# EAGLE library part 113990580 (library inker_super_board_parts)
WiFi Development Tools (802.11) ESP32-CAM Development Board(with camera) https://www.seeedstudio.com/ESP32-CAM-Development-Board-with-camer-p-3153.html Source: Datasheet <https://github.com/SeeedDocument/Outsourcing/raw/master/113990580 ESP32-CAM/113990580 ESP32-CAM Product Specification.pdf>
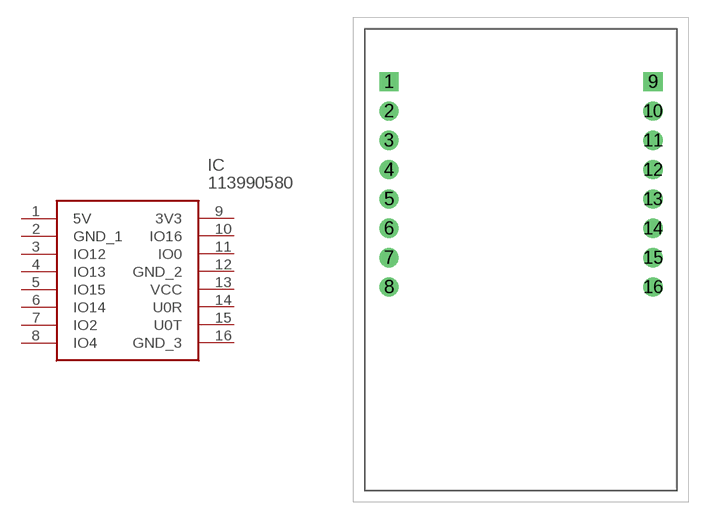
[diagram p4: symbol with the pads of 113990580; footprint 113990580]

Designator prefix IC

## 113990580 (DESCRIPTION: WiFi Development Tools (802.11) ESP32-CAM Development Board(with camera); MANUFACTURER_NAME: Seeed Studio; MANUFACTURER_PART_NUMBER: 113990580)  [113990580]
1  5V
2  GND_1
3  IO12
4  IO13
5  IO15
6  IO14
7  IO2
8  IO4
9  3V3
10  IO16
11  IO0
12  GND_2
13  VCC
14  U0R
15  U0T
16  GND_3

## Footprint 113990580 (pad centres in mm)
113990580-3
drill 1.11 pad 1.665 square: 1 0,0; 9 22.86,0
drill 1.11 pad 1.665: 2 0,-2.54; 3 0,-5.08; 4 0,-7.62; 5 0,-10.16; 6 0,-12.7; 7 0,-15.24; 8 0,-17.78; 10 22.86,-2.54; 11 22.86,-5.08; 12 22.86,-7.62; 13 22.86,-10.16; 14 22.86,-12.7; 15 22.86,-15.24; 16 22.86,-17.78